# Altium schematic symbol library CONN2x3.Schlib: 1 symbol
Pins are listed as number, name and electrical type; pins without a type are passive.

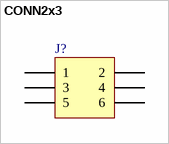
[diagram p0: symbol CONN2x3]

## CONN2x3
designator J?
Connector, 3-Pin, Dual row
signal-integrity model Connector
pins: 1, 2, 3, 4, 5, 6
1 alternate drawing of the same symbol